# EAGLE library part 0915BM15A0001_BANDPASS (library riley)
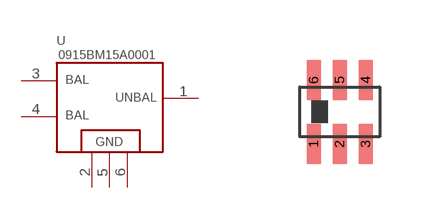
[diagram p0: symbol with the pads of 0915BM15A0001; footprint 0915BM15A0001]

Designator prefix -

## 0915BM15A0001_BANDPASS  [0915BM15A0001]
1  1
2  2
3  3
4  4
5  5
6  6

## Footprint 0915BM15A0001 (pad centres in mm)
smd 0.35 x 1: 1 -0.64,-0.81; 2 0.01,-0.81; 3 0.66,-0.81; 4 0.66,0.79; 5 0.01,0.79; 6 -0.64,0.79